# EAGLE library part NEW-CONTROLLER_TLE5205-2 (library Motor controller v8)
5-A H-Bridge for DC-Motor Applications Source: http://www.infineon.com .. tle5205-2.pdf
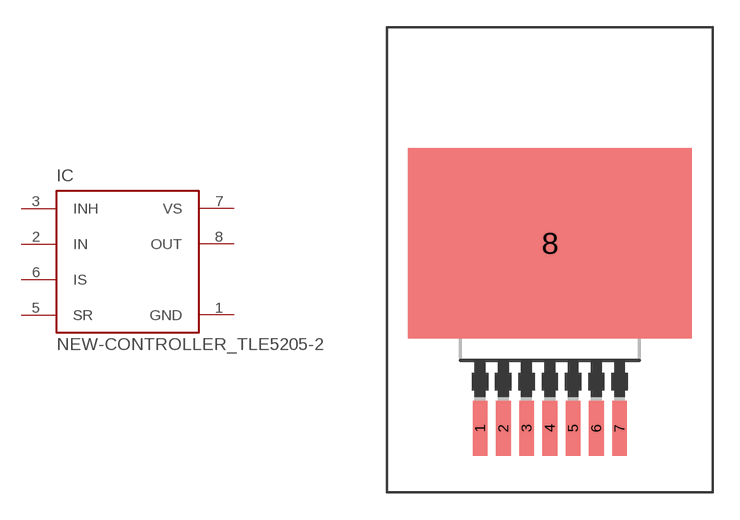
[diagram p3: symbol with the pads of NEW-CONTROLLER_P-TO263-7-1; footprint NEW-CONTROLLER_P-TO263-7-1]

Designator prefix IC

## NEW-CONTROLLER_TLE5205-2G  [NEW-CONTROLLER_P-TO263-7-1]
1  GND
2  IN
3  INH
5  SR
6  IS
7  VS
8  OUT

## Footprint NEW-CONTROLLER_P-TO263-7-1 (pad centres in mm)
Plastic Transistor Single Outline Package P-TO263-7-1 Option E3180 Source: http://www.infineon.com .. tle5205-2.pdf
smd 0.8 x 3: 1 -3.81,-9.207; 2 -2.54,-9.207; 3 -1.27,-9.207; 4 0,-9.207; 5 1.27,-9.207; 6 2.54,-9.207; 7 3.81,-9.207
smd 15.494 x 10.414: 8 0,0.895